# Altium schematic symbol library BSP 76.Schlib: 1 symbol
Pins are listed as number, name and electrical type; pins without a type are passive.

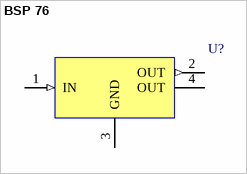
[diagram p0: symbol BSP 76]

## BSP 76
designator U?
Smart Power Low-Side Switch
signal-integrity model BSP 76
pins: 1 IN (in), 2 OUT (out), 3 GND (power), 4 OUT